# EAGLE library part ESP32_DEVKIT (library Clock components)
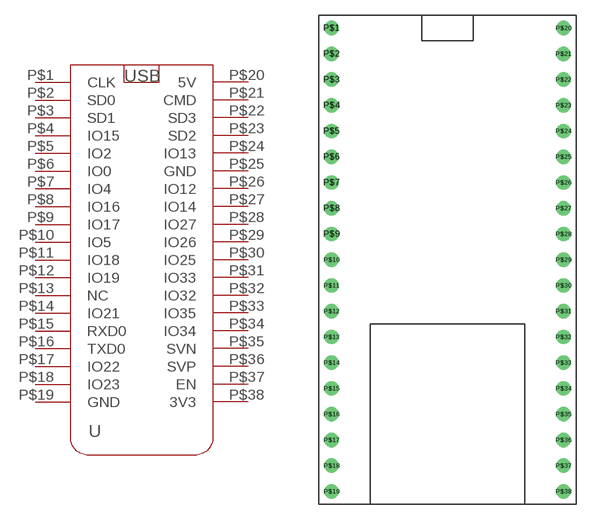
[diagram p1: symbol with the pads of ESP32_DEVKIT; footprint ESP32_DEVKIT]

Designator prefix -

## ESP32_DEVKIT  [ESP32_DEVKIT]
P$1  CLK
P$2  SD0
P$3  SD1
P$4  IO15
P$5  IO2
P$6  IO0
P$7  IO4
P$8  IO16
P$9  IO17
P$10  IO5
P$11  IO18
P$12  IO19
P$13  NC
P$14  IO21
P$15  RXD0
P$16  TXD0
P$17  IO22
P$18  IO23
P$19  GND
P$20  5V
P$21  CMD
P$22  SD3
P$23  SD2
P$24  IO13
P$25  GND
P$26  IO12
P$27  IO14
P$28  IO27
P$29  IO26
P$30  IO25
P$31  IO33
P$32  IO32
P$33  IO35
P$34  IO34
P$35  SVN
P$36  SVP
P$37  EN
P$38  3V3

## Footprint ESP32_DEVKIT (pad centres in mm)
drill 0.9: P$1 -11.43,0; P$2 -11.43,-2.54; P$3 -11.43,-5.08; P$4 -11.43,-7.62; P$5 -11.43,-10.16; P$6 -11.43,-12.7; P$7 -11.43,-15.24; P$8 -11.43,-17.78; P$9 -11.43,-20.32; P$10 -11.43,-22.86; P$11 -11.43,-25.4; P$12 -11.43,-27.94; P$13 -11.43,-30.48; P$14 -11.43,-33.02; P$15 -11.43,-35.56; P$16 -11.43,-38.1; P$17 -11.43,-40.64; P$18 -11.43,-43.18; P$19 -11.43,-45.72; P$20 11.43,0; P$21 11.43,-2.54; P$22 11.43,-5.08; P$23 11.43,-7.62; P$24 11.43,-10.16; P$25 11.43,-12.7; P$26 11.43,-15.24; P$27 11.43,-17.78; P$28 11.43,-20.32; P$29 11.43,-22.86; P$30 11.43,-25.4; P$31 11.43,-27.94; P$32 11.43,-30.48; P$33 11.43,-33.02; P$34 11.43,-35.56; P$35 11.43,-38.1; P$36 11.43,-40.64; P$37 11.43,-43.18; P$38 11.43,-45.72